# Altium footprint library MY_LIB.PcbLib: 129 footprints (part 5 of 9)
Each footprint in its own frame and in the unit in brackets; x right, y up, seen from the top. Pads: shape width x height; smd on the part's side, far side on the other; paste and mask are expansions set on the pad; w line width, h text height; cw(c..) or ccw(c..) is an arc to the next point about the centre after c.
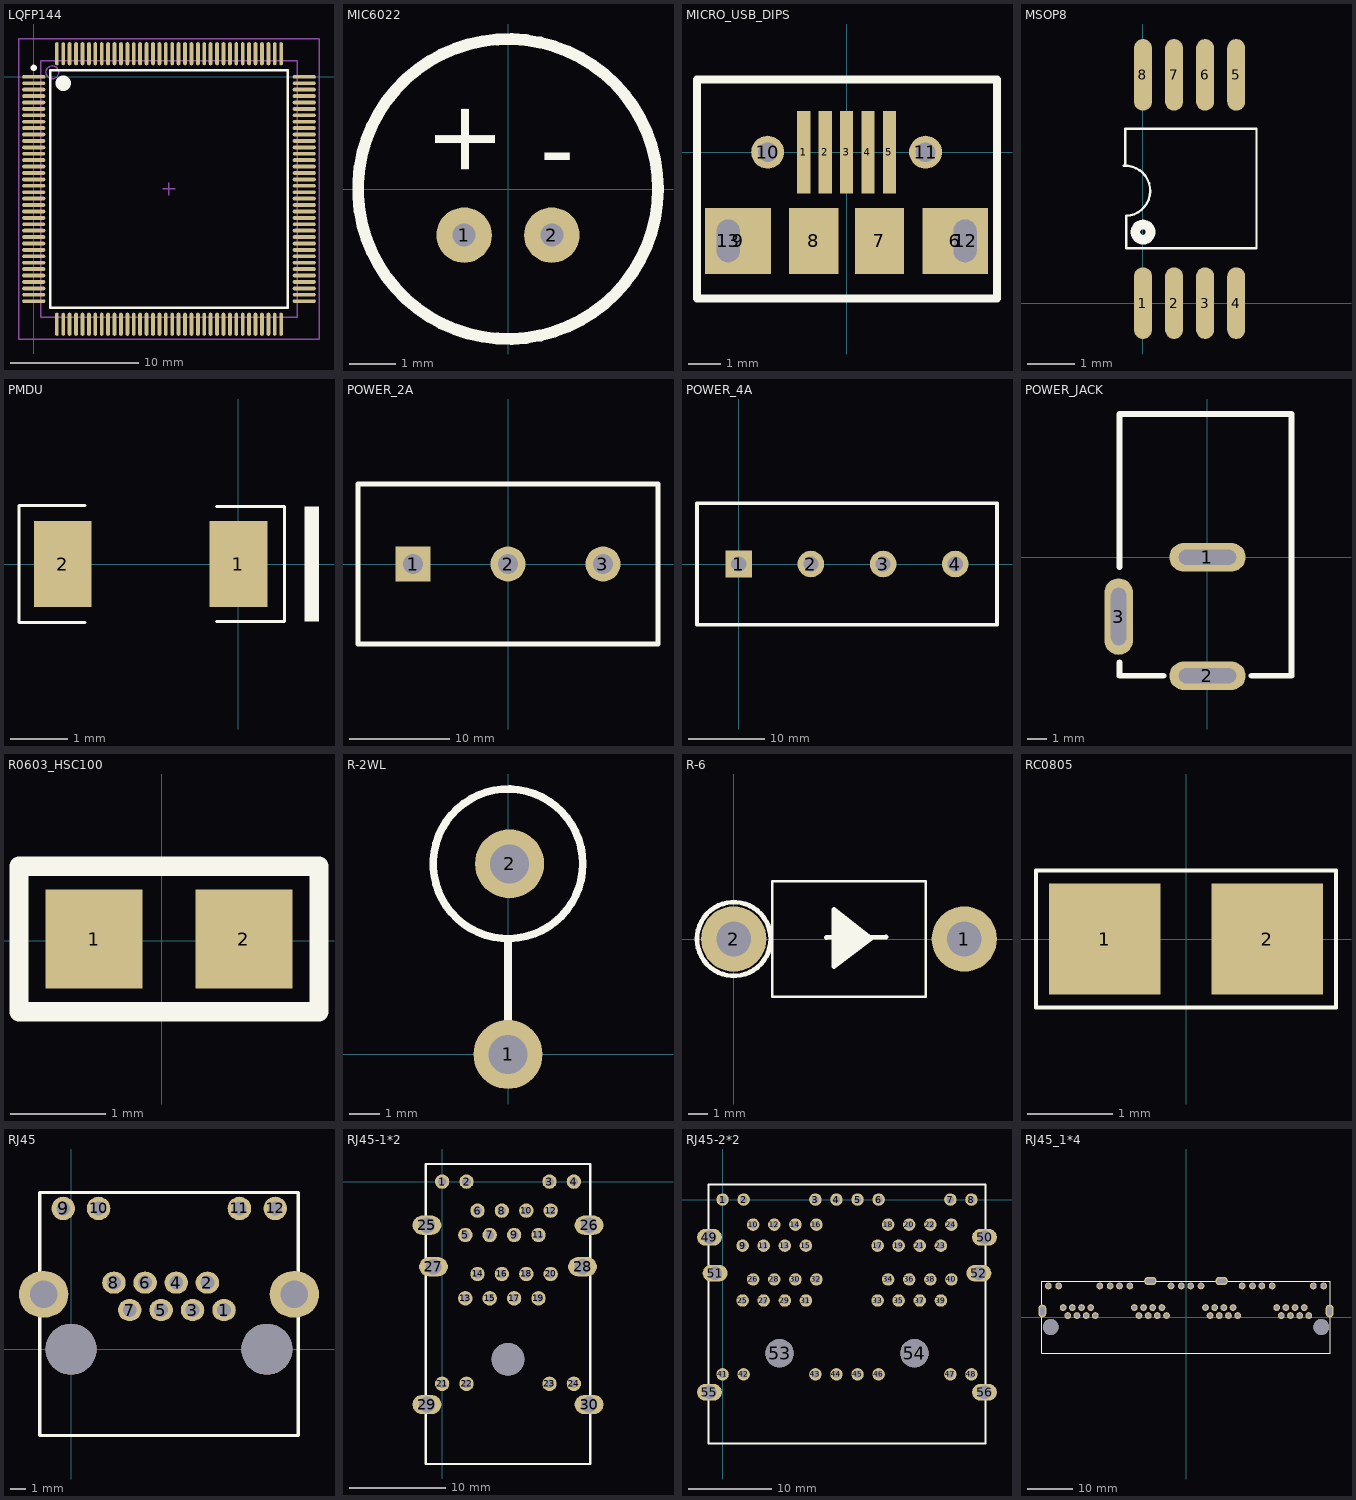
[diagram p4: the footprints below, top view; thin cyan lines are the x and y axes]

## LQFP144 [mm]
pads (144):
  oval 1.8x0.3 smd: 1(0,0) 2(0,-0.5) 3(0,-1) 4(0,-1.5) 5(0,-2) 6(0,-2.5) 7(0,-3) 8(0,-3.5) 9(0,-4) 10(0,-4.5) 11(0,-5) 12(0,-5.5) 13(0,-6) 14(0,-6.5) 15(0,-7) 16(0,-7.5) 17(0,-8) 18(0,-8.5) 19(0,-9) 20(0,-9.5) 21(0,-10) 22(0,-10.5) 23(0,-11) 24(0,-11.5) 25(0,-12) 26(0,-12.5) 27(0,-13) 28(0,-13.5) 29(0,-14) 30(0,-14.5) 31(0,-15) 32(0,-15.5) 33(0,-16) 34(0,-16.5) 35(0,-17) 36(0,-17.5) 73(21.1,-17.5) 74(21.1,-17) 75(21.1,-16.5) 76(21.1,-16) 77(21.1,-15.5) 78(21.1,-15) 79(21.1,-14.5) 80(21.1,-14) 81(21.1,-13.5) 82(21.1,-13) 83(21.1,-12.5) 84(21.1,-12) 85(21.1,-11.5) 86(21.1,-11) 87(21.1,-10.5) 88(21.1,-10) 89(21.1,-9.5) 90(21.1,-9) 91(21.1,-8.5) 92(21.1,-8) 93(21.1,-7.5) 94(21.1,-7) 95(21.1,-6.5) 96(21.1,-6) 97(21.1,-5.5) 98(21.1,-5) 99(21.1,-4.5) 100(21.1,-4) 101(21.1,-3.5) 102(21.1,-3) 103(21.1,-2.5) 104(21.1,-2) 105(21.1,-1.5) 106(21.1,-1) 107(21.1,-0.5) 108(21.1,0)
  oval 0.3x1.8 smd: 37(1.8,-19.3) 38(2.3,-19.3) 39(2.8,-19.3) 40(3.3,-19.3) 41(3.8,-19.3) 42(4.3,-19.3) 43(4.8,-19.3) 44(5.3,-19.3) 45(5.8,-19.3) 46(6.3,-19.3) 47(6.8,-19.3) 48(7.3,-19.3) 49(7.8,-19.3) 50(8.3,-19.3) 51(8.8,-19.3) 52(9.3,-19.3) 53(9.8,-19.3) 54(10.3,-19.3) 55(10.8,-19.3) 56(11.3,-19.3) 57(11.8,-19.3) 58(12.3,-19.3) 59(12.8,-19.3) 60(13.3,-19.3) 61(13.8,-19.3) 62(14.3,-19.3) 63(14.8,-19.3) 64(15.3,-19.3) 65(15.8,-19.3) 66(16.3,-19.3) 67(16.8,-19.3) 68(17.3,-19.3) 69(17.8,-19.3) 70(18.3,-19.3) 71(18.8,-19.3) 72(19.3,-19.3) 109(19.3,1.8) 110(18.8,1.8) 111(18.3,1.8) 112(17.8,1.8) 113(17.3,1.8) 114(16.8,1.8) 115(16.3,1.8) 116(15.8,1.8) 117(15.3,1.8) 118(14.8,1.8) 119(14.3,1.8) 120(13.8,1.8) 121(13.3,1.8) 122(12.8,1.8) 123(12.3,1.8) 124(11.8,1.8) 125(11.3,1.8) 126(10.8,1.8) 127(10.3,1.8) 128(9.8,1.8) 129(9.3,1.8) 130(8.8,1.8) 131(8.3,1.8) 132(7.8,1.8) 133(7.3,1.8) 134(6.8,1.8) 135(6.3,1.8) 136(5.8,1.8) 137(5.3,1.8) 138(4.8,1.8) 139(4.3,1.8) 140(3.8,1.8) 141(3.3,1.8) 142(2.8,1.8) 143(2.3,1.8) 144(1.8,1.8)
Top Overlay:
  circle w0.6: c2.3,-0.5 r0.3
  circle w0.25: c0,0.7 r0.125
  lines w0.2: 1.3,-18 19.8,-18 19.8,0.5 1.3,0.5 1.3,-18
Mechanical 13:
  circle w0.1: c1.45,0.35 r0.5
  lines w0.1: 0.55,-18.75 20.55,-18.75 20.55,1.25 0.55,1.25 0.55,-18.75
Mechanical 15:
  lines w0.1: 10.05,-8.75 11.05,-8.75 ; 10.55,-9.25 10.55,-8.25 ; -1.15,-20.45 22.25,-20.45 22.25,2.95 -1.15,2.95 -1.15,-20.45

## MIC6022 [mm]
pads (2):
  round 1.2 hole 0.5: 1(-0.95,-1) 2(0.95,-1)
Top Overlay:
  circle w0.254: c0,0 r3.25
  text "+" at -0.279,0.203 h1.52
  text "-" at 1.448,1.27 h1.52

## MICRO_USB_DIPS [mm]
pads (13):
  rect 0.4x2.5 smd: 1(-1.3,0) 2(-0.65,0) 3(0,0) 4(0.65,0) 5(1.3,0)
  rect 2x2 smd: 6(3.3,-2.7) 9(-3.3,-2.7)
  rect 1.5x2 smd: 7(1,-2.7) 8(-1,-2.7)
  round 1 hole 0.6: 10(-2.4,0) 11(2.4,0)
  oval 1x1.5 hole 0.7 slot 1.3 at 90 deg: 12(3.6,-2.7) 13(-3.6,-2.7)
Top Overlay:
  lines w0.254: -4.547,-4.45 -4.547,2.21 4.572,2.21 4.572,-4.45 -4.547,-4.45

## MSOP8 [mil]
pads (8):
  oval 15x60 smd: 1(0,0) 2(26,0) 3(52,0) 4(78,0) 5(78,191) 6(52,191) 7(26,191) 8(0,191)
Top Overlay:
  circle w8: c0,59.45 r6.36
  lines w2: -16.1,115 cw(c-15,94) -13.9,73 ; -15,115 -15,146 -6,146 95,146 95,46 -14,46 -14,73

## PMDU [mm]
pads (2):
  rect 1x1.5 smd: 1(0,0) 2(-3.048,0)
Top Overlay:
  rectangle: 1.144,-1 1.398,1
  lines w0.051: -3.81,-1.016 -2.667,-1.016 ; -3.81,-1 -3.81,1 ; -3.81,1.016 -2.667,1.016 ; -0.381,-1 0.801,-1 0.801,1 -0.381,1

## POWER_2A [mm]
pads (3):
  rect 3.5x3.5 hole 2: 1(-9.5,0)
  round 3.5 hole 2: 2(0,0) 3(9.5,0)
Top Overlay:
  lines w0.508: -15,-8 15,-8 15,8 -15,8 -15,-8

## POWER_4A [mm]
pads (4):
  rect 3.5x3.5 hole 2: 1(0,0)
  round 3.5 hole 2: 2(9.5,0) 3(19,0) 4(28.5,0)
Top Overlay:
  lines w0.508: -5.5,-8 -5.5,8 34,8 34,-8 -5.5,-8

## POWER_JACK [mm]
pads (3):
  oval 4x1.5 hole 0.8 slot 3 at 0 deg: 1(0,0) 2(0,-6.2)
  oval 1.5x4 hole 0.8 slot 3 at 90 deg: 3(-4.65,-3.1)
Top Overlay:
  lines w0.305: -4.6,-5.5 -4.6,-6.2 -2.3,-6.2 ; -4.6,-0.5 -4.6,7.5 4.4,7.5 4.4,-6.2 2.3,-6.2

## R0603_HSC100 [mil]
pads (2):
  rect 40x41 smd: 1(-28.01,0.62) 2(33.99,0.62)
Top Overlay:
  lines w8: -59.01,-29.38 -59.01,30.62 64.99,30.62 64.99,-29.38 -59.01,-29.38

## R-2WL [mm]
pads (2):
  round 2.3 hole 1.3: 1(0,0) 2(0.051,6.35)
Top Overlay:
  circle w0.254: c0,6.35 r2.491
  lines w0.254: 0,0 0,3.81

## R-6 [mm]
height 10
pads (2):
  round 3.4 hole 1.8: 1(12,0) 2(0,0)
Top Overlay:
  circle w0.254: c0.008,0 r1.917
  lines w0.127: 2,-3 2,3 10,3 10,-3 2,-3
  lines w0.254: 4.819,0.076 7.919,0.101 ; 5.219,1.526 7.144,0.026 5.219,-1.424 5.219,1.551
  lines w0.35: 5.319,1.226 6.744,0.051 5.344,-1.074 5.444,0.951 6.369,-0.049 5.519,-0.374 5.669,0.551 5.819,-0.124 5.594,-0.699 6.144,-0.074

## RC0805 [mm] "Chip Capacitor, Body 2.0x1.3mm, IPC High Density"
height 1.4
pads (2):
  rect 1.3x1.3 smd: 1(-0.95,0) 2(0.95,0)
Top Overlay:
  lines w0.051: -1.75,-0.8 -1.75,0.8 1.75,0.8 1.75,-0.8 -1.75,-0.8

## RJ45 [mm]
pads (16):
  oval 1.524x1.424 hole 0.9: 1(9.92,2.54) 2(8.84,4.32) 3(7.88,2.54) 4(6.82,4.32) 5(5.84,2.54) 6(4.8,4.32) 7(3.8,2.54) 8(2.78,4.32)
  round 1.524 hole 0.9: 9(-0.51,9.13) 10(1.78,9.13) 11(10.92,9.13) 12(13.24,9.13)
  oval 3.2x3 hole 1.8: ""(-1.78,3.56) ""(14.48,3.56)
  round 3.3 hole 3.3: ""(0,0) ""(12.7,0)
Top Overlay:
  lines w0.203: -2.032,-5.588 14.732,-5.588 14.732,10.16 -2.032,10.16 -2.032,-5.588

## RJ45-1*2 [mm]
pads (31):
  round 1.5 hole 0.9: 1(0,0) 2(2.54,0) 3(11.18,0) 4(13.72,0) 5(2.415,-5.56) 6(3.685,-3.02) 7(4.955,-5.56) 8(6.225,-3.02) 9(7.495,-5.56) 10(8.765,-3.02) 11(10.035,-5.56) 12(11.305,-3.02) 13(2.415,-12.16) 14(3.685,-9.62) 15(4.955,-12.16) 16(6.225,-9.62) 17(7.495,-12.16) 18(8.765,-9.62) 19(10.035,-12.16) 20(11.305,-9.62) 21(0,-21.05) 22(2.54,-21.05) 23(11.18,-21.05) 24(13.72,-21.05)
  oval 3x2 hole 1.65: 25(-1.58,-4.54) 26(15.3,-4.54) 27(-0.9,-8.86) 28(14.62,-8.86) 29(-1.58,-23.21) 30(15.3,-23.21)
  round 3.4 hole 3.4: ""(6.86,-18.51)
Top Overlay:
  lines w0.254: -1.705,-29.4 15.425,-29.4 15.425,1.83 -1.705,1.83 -1.705,-29.4

## RJ45-2*2 [mm]
pads (56):
  round 1.5 hole 0.9: 1(0,0) 2(2.54,0) 3(11.18,0) 4(13.72,0) 5(16.26,0) 6(18.8,0) 7(27.44,0) 8(29.98,0) 9(2.415,-5.56) 10(3.685,-3.02) 11(4.955,-5.56) 12(6.225,-3.02) 13(7.495,-5.56) 14(8.765,-3.02) 15(10.035,-5.56) 16(11.305,-3.02) 17(18.675,-5.56) 18(19.945,-3.02) 19(21.215,-5.56) 20(22.485,-3.02) 21(23.755,-5.56) 22(25.025,-3.02) 23(26.295,-5.56) 24(27.565,-3.02) 25(2.415,-12.16) 26(3.685,-9.62) 27(4.955,-12.16) 28(6.225,-9.62) 29(7.495,-12.16) 30(8.765,-9.62) 31(10.035,-12.16) 32(11.305,-9.62) 33(18.675,-12.16) 34(19.945,-9.62) 35(21.215,-12.16) 36(22.485,-9.62) 37(23.755,-12.16) 38(25.025,-9.62) 39(26.295,-12.16) 40(27.565,-9.62) 41(0,-21.05) 42(2.54,-21.05) 43(11.18,-21.05) 44(13.72,-21.05) 45(16.26,-21.05) 46(18.8,-21.05) 47(27.44,-21.05) 48(29.98,-21.05)
  oval 3x2 hole 1.65: 49(-1.58,-4.54) 50(31.56,-4.54) 51(-0.9,-8.86) 52(30.88,-8.86) 55(-1.58,-23.21) 56(31.56,-23.21)
  round 3.4 hole 3.4: 53(6.86,-18.51) 54(23.12,-18.51)
Top Overlay:
  lines w0.254: -1.705,-29.4 -1.705,1.83 31.685,1.83 31.685,-29.4 -1.705,-29.4

## RJ45_1*4 [mm]
pads (54):
  round 1.5 hole 0.95: 1(-27.27,2.15) 2(-26.25,0.37) 3(-25.23,2.15) 4(-24.21,0.37) 5(-23.19,2.15) 6(-22.17,0.37) 7(-21.15,2.15) 8(-20.13,0.37) 13(-11.47,2.15) 14(-10.45,0.37) 15(-9.43,2.15) 16(-8.41,0.37) 17(-7.39,2.15) 18(-6.37,0.37) 19(-5.35,2.15) 20(-4.33,0.37) 25(4.33,2.15) 26(5.35,0.37) 27(6.37,2.15) 28(7.39,0.37) 29(8.41,2.15) 30(9.43,0.37) 31(10.45,2.15) 32(11.47,0.37) 37(20.13,2.15) 38(21.15,0.37) 39(22.17,2.15) 40(23.19,0.37) 41(24.21,2.15) 42(25.23,0.37) 43(26.25,2.15) 44(27.27,0.37)
  round 1.5 hole 1.016: 9(-30.56,6.95) 10(-28.27,6.95) 11(-19.13,6.95) 12(-16.84,6.95) 21(-14.76,6.95) 22(-12.47,6.95) 23(-3.33,6.95) 24(-1.04,6.95) 33(1.04,6.95) 34(3.33,6.95) 35(12.47,6.95) 36(14.76,6.95) 45(16.84,6.95) 46(19.13,6.95) 47(28.27,6.95) 48(30.56,6.95)
  oval 1.8x2.8 hole 1 slot 2 at 90 deg: ""(-31.9,1.39) ""(31.9,1.39)
  round 3.5 hole 3.5: ""(-30.05,-2.17) ""(30.05,-2.17)
  oval 2.8x1.8 hole 1 slot 2 at 0 deg: ""(-7.9,8.05) ""(7.9,8.05)
Top Overlay:
  lines w0.254: -32,-8 -32,8 32,8 32,-8 -32,-8